# Altium footprint library RES0603.PcbLib: 6 footprints
Each footprint in its own frame and in the unit in brackets; x right, y up, seen from the top. Pads: shape width x height; smd on the part's side, far side on the other; paste and mask are expansions set on the pad; w line width, h text height; cw(c..) or ccw(c..) is an arc to the next point about the centre after c.
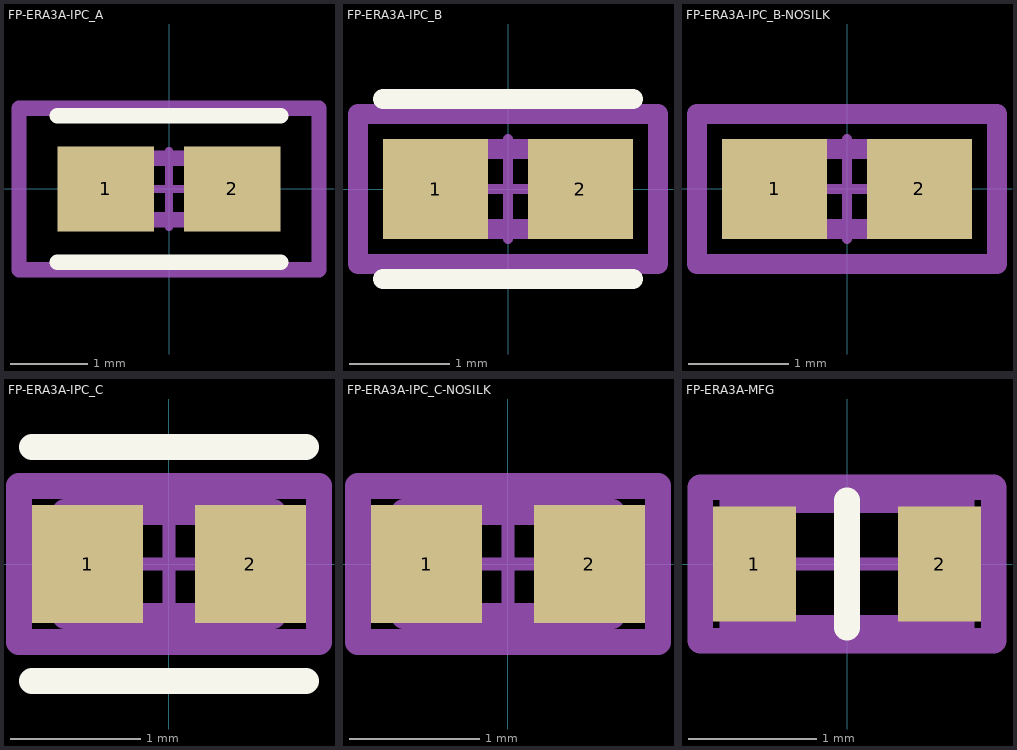
[diagram p0: the footprints below, top view; thin cyan lines are the x and y axes]

## FP-ERA3A-IPC_A [mm]
pads (2):
  rect 1.255x1.106 smd: 1(-0.826,0) 2(0.826,0)
Top Overlay:
  lines w0.2: -1.453,-0.953 1.453,-0.953 ; -1.453,0.953 1.453,0.953
Top Assembly:
  lines w0.2: -1.953,-1.053 -1.953,1.053 1.953,1.053 1.953,-1.053 -1.953,-1.053
  text ".Designator" at 0,0.188 h1
Top 3D Body:
  lines w0.2: -0.8,-0.4 -0.8,0.4 0.8,0.4 0.8,-0.4 -0.8,-0.4
Top Courtyard:
  lines w0.2: -1.953,-1.053 -1.953,1.053 1.953,1.053 1.953,-1.053 -1.953,-1.053
Top Component Center:
  lines w0.1: -0.5,0 0.5,0 ; 0,-0.5 0,0.5
3D body "Res_Panasonic_Electronic_Components_ERA-3ARB202V_eec.STEP": height 0.25, standoff 0, extent -1.953,-1.053 1.953,1.053

## FP-ERA3A-IPC_B [mm]
pads (2):
  rect 1.055x1.006 smd: 1(-0.726,0) 2(0.726,0)
Top Overlay:
  lines w0.2: -1.253,-0.903 1.253,-0.903 ; -1.253,0.903 1.253,0.903
Top Assembly:
  lines w0.2: -1.503,-0.753 1.503,-0.753 1.503,0.753 -1.503,0.753 -1.503,-0.753
  text ".Designator" at 0,0.188 h1
Top 3D Body:
  lines w0.2: -0.8,-0.4 0.8,-0.4 0.8,0.4 -0.8,0.4 -0.8,-0.4
Top Courtyard:
  lines w0.2: -1.503,-0.753 1.503,-0.753 1.503,0.753 -1.503,0.753 -1.503,-0.753
Top Component Center:
  lines w0.1: -0.5,0 0.5,0 ; 0,-0.5 0,0.5
3D body "Res_Panasonic_Electronic_Components_ERA-3ARB202V_eec.STEP": height 0.25, standoff 0, extent -1.503,-0.753 1.503,0.753

## FP-ERA3A-IPC_B-NOSILK [mm]
pads (2):
  rect 1.055x1.006 smd: 1(-0.726,0) 2(0.726,0)
Top Assembly:
  lines w0.2: -1.503,-0.753 -1.503,0.753 1.503,0.753 1.503,-0.753 -1.503,-0.753
  text ".Designator" at 0,0.188 h1
Top 3D Body:
  lines w0.2: -0.8,-0.4 -0.8,0.4 0.8,0.4 0.8,-0.4 -0.8,-0.4
Top Courtyard:
  lines w0.2: -1.503,-0.753 -1.503,0.753 1.503,0.753 1.503,-0.753 -1.503,-0.753
Top Component Center:
  lines w0.1: -0.5,0 0.5,0 ; 0,-0.5 0,0.5
3D body "Res_Panasonic_Electronic_Components_ERA-3ARB202V_eec.STEP": height 0.25, standoff 0, extent -1.503,-0.753 1.503,0.753

## FP-ERA3A-IPC_C [mm]
pads (2):
  rect 0.855x0.906 smd: 1(-0.626,0) 2(0.626,0)
Top Overlay:
  lines w0.2: -1.053,-0.9 1.053,-0.9 ; -1.053,0.9 1.053,0.9
Top Assembly:
  lines w0.2: -1.153,-0.6 1.153,-0.6 1.153,0.6 -1.153,0.6 -1.153,-0.6
  text ".Designator" at 0,0.188 h1
Top 3D Body:
  lines w0.2: -0.8,-0.4 0.8,-0.4 0.8,0.4 -0.8,0.4 -0.8,-0.4
Top Courtyard:
  lines w0.2: -1.153,-0.6 1.153,-0.6 1.153,0.6 -1.153,0.6 -1.153,-0.6
Top Component Center:
  lines w0.1: -0.5,0 0.5,0 ; 0,-0.5 0,0.5
3D body "Res_Panasonic_Electronic_Components_ERA-3ARB202V_eec.STEP": height 0.25, standoff 0, extent -1.153,-0.6 1.153,0.6

## FP-ERA3A-IPC_C-NOSILK [mm]
pads (2):
  rect 0.855x0.906 smd: 1(-0.626,0) 2(0.626,0)
Top Assembly:
  lines w0.2: -1.153,-0.6 -1.153,0.6 1.153,0.6 1.153,-0.6 -1.153,-0.6
  text ".Designator" at 0,0.188 h1
Top 3D Body:
  lines w0.2: -0.8,-0.4 -0.8,0.4 0.8,0.4 0.8,-0.4 -0.8,-0.4
Top Courtyard:
  lines w0.2: -1.153,-0.6 -1.153,0.6 1.153,0.6 1.153,-0.6 -1.153,-0.6
Top Component Center:
  lines w0.1: -0.5,0 0.5,0 ; 0,-0.5 0,0.5
3D body "Res_Panasonic_Electronic_Components_ERA-3ARB202V_eec.STEP": height 0.25, standoff 0, extent -1.153,-0.6 1.153,0.6

## FP-ERA3A-MFG [mm]
pads (2):
  rect 0.65x0.9 smd: 1(-0.725,0) 2(0.725,0)
Top Overlay:
  lines w0.2: 0,-0.5 0,0.5
Top Assembly:
  lines w0.2: -1.15,-0.6 1.15,-0.6 1.15,0.6 -1.15,0.6 -1.15,-0.6
  text ".Designator" at 0,-0.001 h1
Top 3D Body:
  lines w0.2: -0.9,-0.5 0.9,-0.5 0.9,0.5 -0.9,0.5 -0.9,-0.5
Top Courtyard:
  lines w0.2: -1.15,-0.6 1.15,-0.6 1.15,0.6 -1.15,0.6 -1.15,-0.6
Top Component Center:
  lines w0.1: -0.5,0 0.5,0 ; 0,-0.5 0,0.5
3D body "Res_Panasonic_Electronic_Components_ERA-3ARB202V_eec.STEP": height 0.25, standoff 0, extent -1.15,-0.6 1.15,0.6